# EAGLE library part TTL_RS485_KUSKALLA (library TTL_RS485_KUSKALLA)
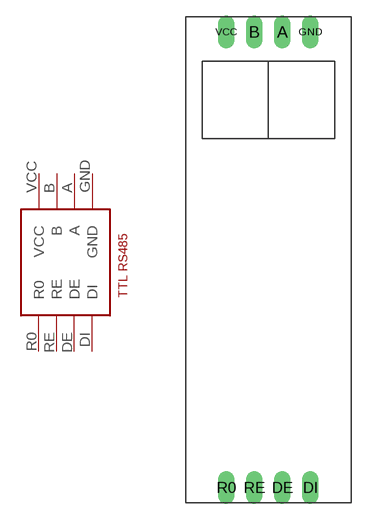
[diagram p0: symbol with the pads of TTL_RS485_KUSKALLA; footprint TTL_RS485_KUSKALLA]

Designator prefix -

## TTL_RS485_KUSKALLA  [TTL_RS485_KUSKALLA]
A  A
B  B
DE  DE
DI  DI
GND  GND
R0  R0
RE  RE
VCC  VCC

## Footprint TTL_RS485_KUSKALLA (pad centres in mm)
drill 1 long: A 1.27,20.64; B -1.27,20.64; DE 1.27,-20.64; DI 3.81,-20.64; GND 3.81,20.64; R0 -3.81,-20.64; RE -1.27,-20.64; VCC -3.81,20.64